# Altium schematic symbol library 2021-06-30_23-28-13.SchLib: 2 symbols
Pins are listed as number, name and electrical type; pins without a type are passive.

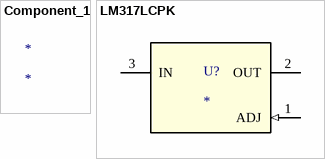
[diagram p0: symbols Component_1 to LM317LCPK]

## Component_1
designator *

## LM317LCPK
designator U?
No Description Available; PartNumber: LM317LIPK; Manufacturer: Texas Instruments; RefDes: RefDes; Type: DEV; Value: Value; Copyright: Copyright (C) 2021 Accelerated Designs. All rights reserved
footprint PK0003A_N
pins: 1 ADJ (in), 2 OUT (power), 3 IN (power)